# EAGLE library part SUCHAI_STACK (library SUCHAI_PC104 StackBreakout)
ASSEMBLY, SOCKET STRIP .016 X .031 TAIL.
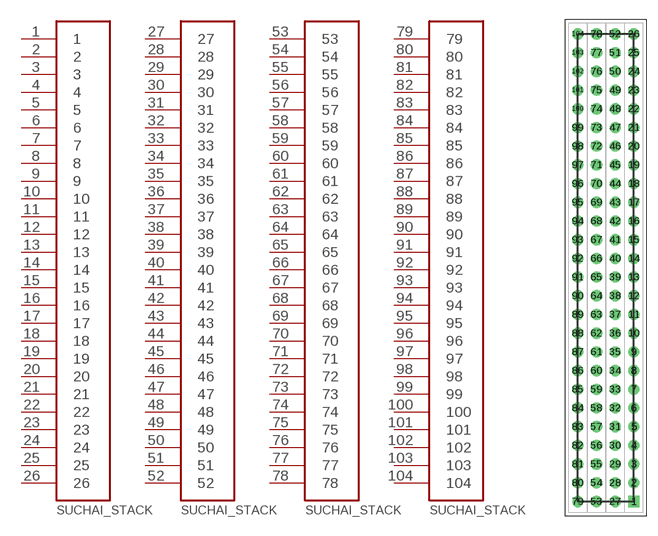
[diagram p0: symbol with the pads of SUCHAI_STACK; footprint SUCHAI_STACK]

Designator prefix J

## SUCHAI_STACK  [SUCHAI_STACK]
1  1
2  2
3  3
4  4
5  5
6  6
7  7
8  8
9  9
10  10
11  11
12  12
13  13
14  14
15  15
16  16
17  17
18  18
19  19
20  20
21  21
22  22
23  23
24  24
25  25
26  26
27  27
28  28
29  29
30  30
31  31
32  32
33  33
34  34
35  35
36  36
37  37
38  38
39  39
40  40
41  41
42  42
43  43
44  44
45  45
46  46
47  47
48  48
49  49
50  50
51  51
52  52
53  53
54  54
55  55
56  56
57  57
58  58
59  59
60  60
61  61
62  62
63  63
64  64
65  65
66  66
67  67
68  68
69  69
70  70
71  71
72  72
73  73
74  74
75  75
76  76
77  77
78  78
79  79
80  80
81  81
82  82
83  83
84  84
85  85
86  86
87  87
88  88
89  89
90  90
91  91
92  92
93  93
94  94
95  95
96  96
97  97
98  98
99  99
100  100
101  101
102  102
103  103
104  104

## Footprint SUCHAI_STACK (pad centres in mm)
ASSEMBLY, SOCKET STRIP .016 X .031 TAIL.
drill 1.016 pad 1.524 square: 1 12.72,13.16
drill 1.016 pad 1.524: 2 12.72,15.7; 3 12.72,18.24; 4 12.72,20.78; 5 12.72,23.32; 6 12.72,25.86; 7 12.72,28.4; 8 12.72,30.94; 9 12.72,33.48; 10 12.72,36.02; 11 12.72,38.56; 12 12.72,41.1; 13 12.72,43.64; 14 12.72,46.18; 15 12.72,48.72; 16 12.72,51.26; 17 12.72,53.8; 18 12.72,56.34; 19 12.72,58.88; 20 12.72,61.42; 21 12.72,63.96; 22 12.72,66.5; 23 12.72,69.04; 24 12.72,71.58; 25 12.72,74.12; 26 12.72,76.66; 27 10.18,13.16; 28 10.18,15.7; 29 10.18,18.24; 30 10.18,20.78; 31 10.18,23.32; 32 10.18,25.86; 33 10.18,28.4; 34 10.18,30.94; 35 10.18,33.48; 36 10.18,36.02; 37 10.18,38.56; 38 10.18,41.1; 39 10.18,43.64; 40 10.18,46.18; 41 10.18,48.72; 42 10.18,51.26; 43 10.18,53.8; 44 10.18,56.34; 45 10.18,58.88; 46 10.18,61.42; 47 10.18,63.96; 48 10.18,66.5; 49 10.18,69.04; 50 10.18,71.58; 51 10.18,74.12; 52 10.18,76.66; 53 7.64,13.16; 54 7.64,15.7; 55 7.64,18.24; 56 7.64,20.78; 57 7.64,23.32; 58 7.64,25.86; 59 7.64,28.4; 60 7.64,30.94; 61 7.64,33.48; 62 7.64,36.02; 63 7.64,38.56; 64 7.64,41.1; 65 7.64,43.64; 66 7.64,46.18; 67 7.64,48.72; 68 7.64,51.26; 69 7.64,53.8; 70 7.64,56.34; 71 7.64,58.88; 72 7.64,61.42; 73 7.64,63.96; 74 7.64,66.5; 75 7.64,69.04; 76 7.64,71.58; 77 7.64,74.12; 78 7.64,76.66; 79 5.1,13.16; 80 5.1,15.7; 81 5.1,18.24; 82 5.1,20.78; 83 5.1,23.32; 84 5.1,25.86; 85 5.1,28.4; 86 5.1,30.94; 87 5.1,33.48; 88 5.1,36.02; 89 5.1,38.56; 90 5.1,41.1; 91 5.1,43.64; 92 5.1,46.18; 93 5.1,48.72; 94 5.1,51.26; 95 5.1,53.8; 96 5.1,56.34; 97 5.1,58.88; 98 5.1,61.42; 99 5.1,63.96; 100 5.1,66.5; 101 5.1,69.04; 102 5.1,71.58; 103 5.1,74.12; 104 5.1,76.66